# Altium footprint library DHT11.PcbLib: 1 footprints
Each footprint in its own frame and in the unit in brackets; x right, y up, seen from the top. Pads: shape width x height; smd on the part's side, far side on the other; paste and mask are expansions set on the pad; w line width, h text height; cw(c..) or ccw(c..) is an arc to the next point about the centre after c.
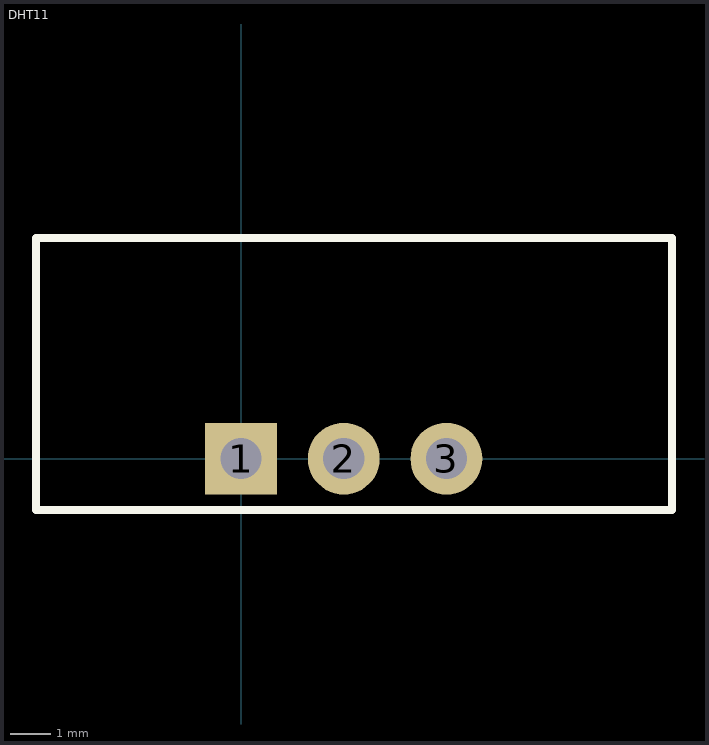
[diagram p0: the footprint, top view; thin cyan lines are the x and y axes]

## DHT11 [mil]
pads (3):
  rect 70x70 hole 40: 1(0,0)
  round 70 hole 40: 2(100,0) 3(200,0)
Top Overlay:
  lines w7.87: -200,-50 -200,215 420,215 420,-50 -200,-50
3D body "DHT11.step": height 953.53, standoff -136.81, extent -201.83,-39.65 428.09,295